# Altium footprint library Chip_Resistor_M.PcbLib: 13 footprints
Each footprint in its own frame and in the unit in brackets; x right, y up, seen from the top. Pads: shape width x height; smd on the part's side, far side on the other; paste and mask are expansions set on the pad; w line width, h text height; cw(c..) or ccw(c..) is an arc to the next point about the centre after c.
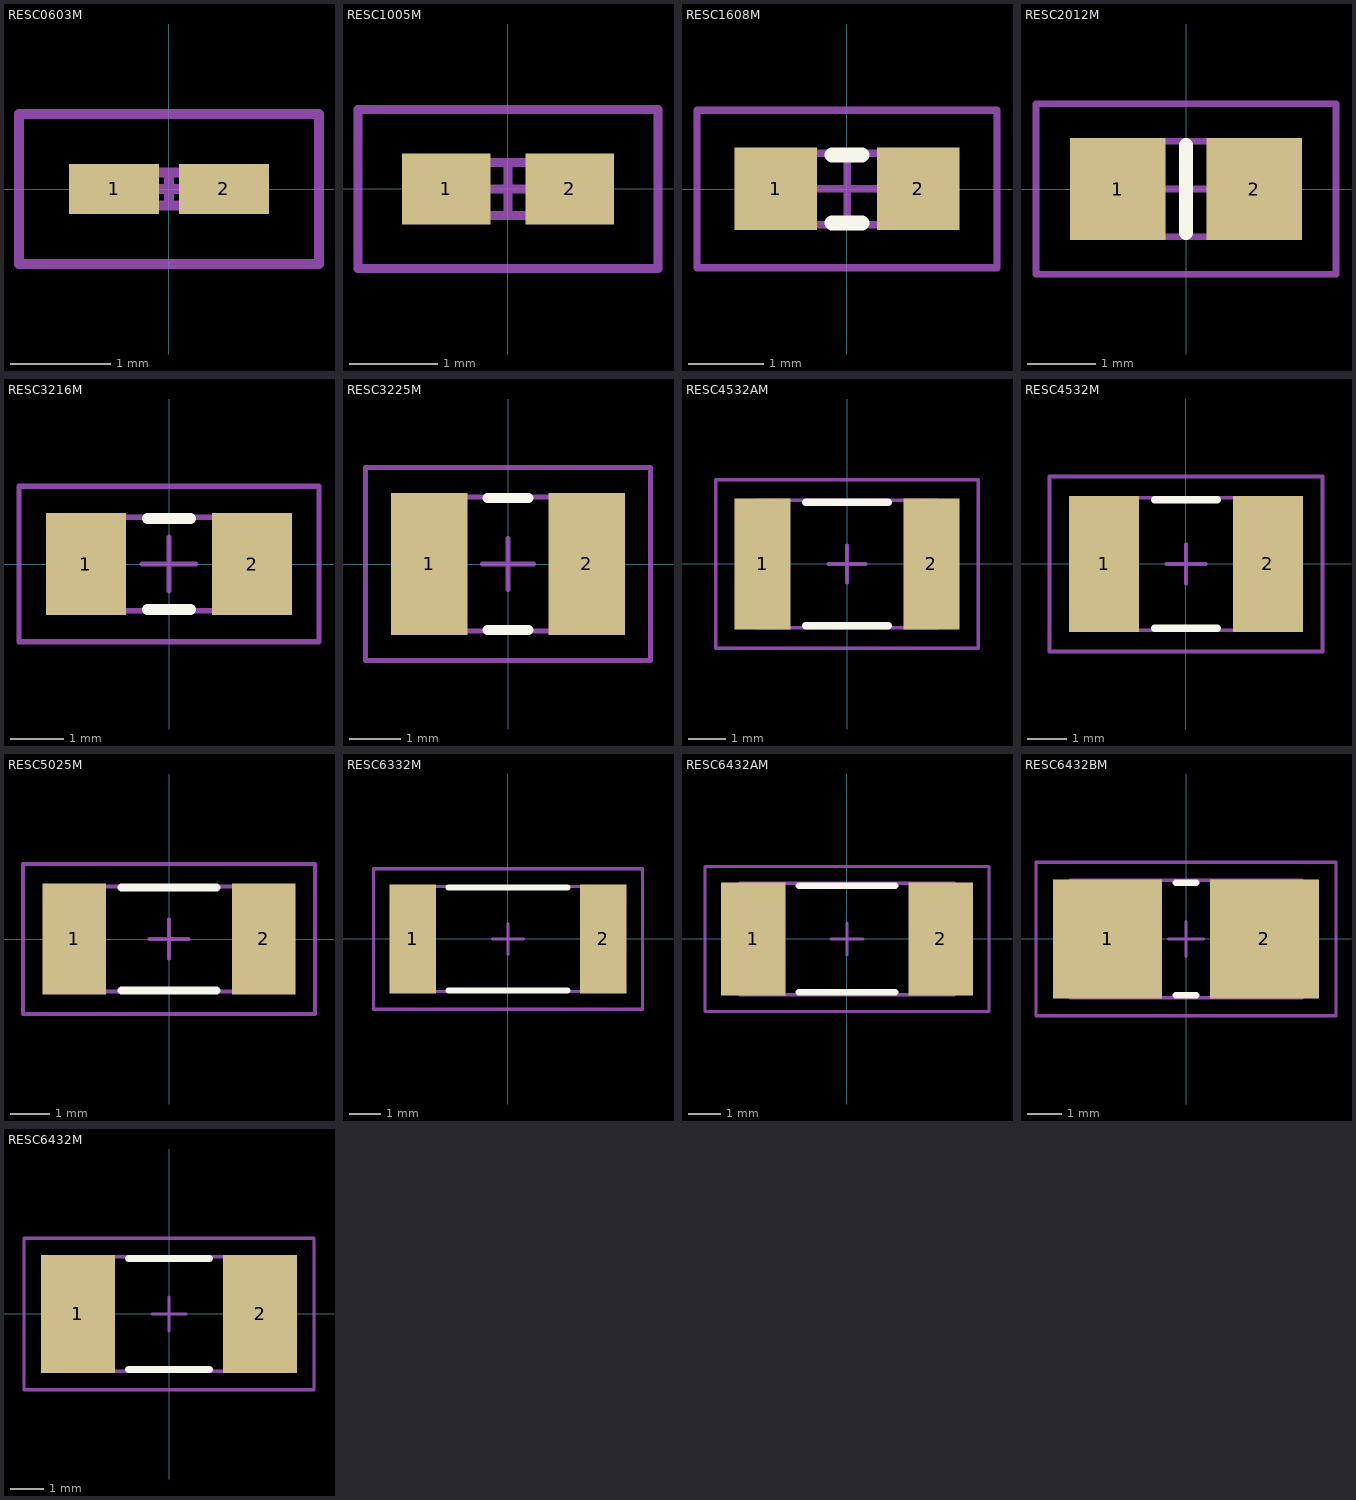
[diagram p0: the footprints below, top view; thin cyan lines are the x and y axes]

## RESC0603M [mm] "Chip Resistor, Body 0.6x0.3mm, IPC Low Density"
height 0.3
pads (2):
  rect 0.9x0.5 smd: 1(-0.55,0) 2(0.55,0)
Mechanical 13:
  lines w0.1: -0.315,-0.165 -0.315,0.165 0.315,0.165 0.315,-0.165 -0.315,-0.165
Mechanical 15:
  lines w0.1: -0.165,0 0.165,0 ; 0,-0.165 0,0.165 ; -1.5,-0.75 -1.5,0.75 1.5,0.75 1.5,-0.75 -1.5,-0.75
3D body: height 0.3, standoff 0, extent -0.315,-0.165 0.315,0.165

## RESC1005M [mm] "Chip Resistor, Body 1.1x0.5mm, IPC Low Density"
height 0.4
pads (2):
  rect 1x0.8 smd: 1(-0.7,0) 2(0.7,0)
Mechanical 13:
  lines w0.1: -0.55,-0.3 0.55,-0.3 0.55,0.3 -0.55,0.3 -0.55,-0.3
Mechanical 15:
  lines w0.1: -0.3,0 0.3,0 ; 0,-0.3 0,0.3 ; -1.7,-0.9 1.7,-0.9 1.7,0.9 -1.7,0.9 -1.7,-0.9
3D body: height 0.4, standoff 0, extent -0.55,-0.3 0.55,0.3

## RESC1608M [mm] "Chip Resistor, Body 1.6x0.8mm, IPC Low Density"
height 0.6
pads (2):
  rect 1.1x1.1 smd: 1(-0.95,0) 2(0.95,0)
Top Overlay:
  lines w0.2: -0.2,-0.45 0.2,-0.45 ; -0.2,0.45 0.2,0.45
Mechanical 13:
  lines w0.1: -0.85,-0.475 0.85,-0.475 0.85,0.475 -0.85,0.475 -0.85,-0.475
Mechanical 15:
  lines w0.1: -0.475,0 0.475,0 ; 0,-0.475 0,0.475 ; -2,-1.05 2,-1.05 2,1.05 -2,1.05 -2,-1.05
3D body: height 0.6, standoff 0, extent -0.85,-0.475 0.85,0.475

## RESC2012M [mm] "Chip Resistor, Body 2.0x1.3mm, IPC Low Density"
height 0.65
pads (2):
  rect 1.4x1.5 smd: 1(-1,0) 2(1,0)
Top Overlay:
  lines w0.2: 0,-0.65 0,0.65
Mechanical 13:
  lines w0.1: -1.075,-0.7 -1.075,0.7 1.075,0.7 1.075,-0.7 -1.075,-0.7
Mechanical 15:
  lines w0.1: -0.5,0 0.5,0 ; 0,-0.5 0,0.5 ; -2.2,-1.25 -2.2,1.25 2.2,1.25 2.2,-1.25 -2.2,-1.25
3D body: height 0.65, standoff 0, extent -1.075,-0.7 1.075,0.7

## RESC3216M [mm] "Chip Resistor, Body 3.2x1.6mm, IPC Low Density"
height 0.71
pads (2):
  rect 1.5x1.9 smd: 1(-1.55,0) 2(1.55,0)
Top Overlay:
  lines w0.2: -0.4,-0.85 0.4,-0.85 ; -0.4,0.85 0.4,0.85
Mechanical 13:
  lines w0.1: -1.675,-0.875 1.675,-0.875 1.675,0.875 -1.675,0.875 -1.675,-0.875
Mechanical 15:
  lines w0.1: -0.5,0 0.5,0 ; 0,-0.5 0,0.5 ; -2.8,-1.45 2.8,-1.45 2.8,1.45 -2.8,1.45 -2.8,-1.45
3D body: height 0.71, standoff 0, extent -1.675,-0.875 1.675,0.875

## RESC3225M [mm] "Chip Resistor, Body 3.2x2.5mm, IPC Low Density"
height 0.71
pads (2):
  rect 1.5x2.8 smd: 1(-1.55,0) 2(1.55,0)
Top Overlay:
  lines w0.2: -0.4,-1.3 0.4,-1.3 ; -0.4,1.3 0.4,1.3
Mechanical 13:
  lines w0.1: -1.675,-1.32 1.675,-1.32 1.675,1.32 -1.675,1.32 -1.675,-1.32
Mechanical 15:
  lines w0.1: -0.5,0 0.5,0 ; 0,-0.5 0,0.5 ; -2.8,-1.9 2.8,-1.9 2.8,1.9 -2.8,1.9 -2.8,-1.9
3D body: height 0.71, standoff 0, extent -1.675,-1.32 1.675,1.32

## RESC4532AM [mm] "Chip Resistor, Body 4.5x3.2mm, IPC Low Density"
height 0.7
pads (2):
  rect 1.5x3.5 smd: 1(-2.25,0) 2(2.25,0)
Top Overlay:
  lines w0.2: -1.1,-1.65 1.1,-1.65 ; -1.1,1.65 1.1,1.65
Mechanical 13:
  lines w0.1: -2.4,-1.7 2.4,-1.7 2.4,1.7 -2.4,1.7 -2.4,-1.7
Mechanical 15:
  lines w0.1: -0.5,0 0.5,0 ; 0,-0.5 0,0.5 ; -3.5,-2.25 3.5,-2.25 3.5,2.25 -3.5,2.25 -3.5,-2.25
3D body: height 0.7, standoff 0, extent -2.4,-1.7 2.4,1.7

## RESC4532M [mm] "Chip Resistor, Body 4.5x3.2mm, IPC Low Density"
height 0.71
pads (2):
  rect 1.8x3.5 smd: 1(-2.1,0) 2(2.1,0)
Top Overlay:
  lines w0.2: -0.8,-1.65 0.8,-1.65 ; -0.8,1.65 0.8,1.65
Mechanical 13:
  lines w0.1: -2.4,-1.7 -2.4,1.7 2.4,1.7 2.4,-1.7 -2.4,-1.7
Mechanical 15:
  lines w0.1: -0.5,0 0.5,0 ; 0,-0.5 0,0.5 ; -3.5,-2.25 -3.5,2.25 3.5,2.25 3.5,-2.25 -3.5,-2.25
3D body: height 0.71, standoff 0, extent -2.4,-1.7 2.4,1.7

## RESC5025M [mm] "Chip Resistor, Body 5.0x2.5mm, IPC Low Density"
height 0.71
pads (2):
  rect 1.6x2.8 smd: 1(-2.4,0) 2(2.4,0)
Top Overlay:
  lines w0.2: -1.2,-1.3 1.2,-1.3 ; -1.2,1.3 1.2,1.3
Mechanical 13:
  lines w0.1: -2.575,-1.325 2.575,-1.325 2.575,1.325 -2.575,1.325 -2.575,-1.325
Mechanical 15:
  lines w0.1: -0.5,0 0.5,0 ; 0,-0.5 0,0.5 ; -3.7,-1.9 3.7,-1.9 3.7,1.9 -3.7,1.9 -3.7,-1.9
3D body: height 0.71, standoff 0, extent -2.575,-1.325 2.575,1.325

## RESC6332M [mm] "Chip Resistor, Body 6.3x3.2mm, IPC Low Density"
height 0.71
pads (2):
  rect 1.5x3.5 smd: 1(-3.05,0) 2(3.05,0)
Top Overlay:
  lines w0.2: -1.9,-1.65 1.9,-1.65 ; -1.9,1.65 1.9,1.65
Mechanical 13:
  lines w0.1: -3.225,-1.675 -3.225,1.675 3.225,1.675 3.225,-1.675 -3.225,-1.675
Mechanical 15:
  lines w0.1: -0.5,0 0.5,0 ; 0,-0.5 0,0.5 ; -4.3,-2.25 -4.3,2.25 4.3,2.25 4.3,-2.25 -4.3,-2.25
3D body: height 0.71, standoff 0, extent -3.225,-1.675 3.225,1.675

## RESC6432AM [mm] "Chip Resistor, Body 6.4x3.2mm, IPC Low Density"
height 1.1
pads (2):
  rect 2x3.5 smd: 1(-2.9,0) 2(2.9,0)
Top Overlay:
  lines w0.2: -1.5,-1.65 1.5,-1.65 ; -1.5,1.65 1.5,1.65
Mechanical 13:
  lines w0.1: -3.325,-1.725 -3.325,1.725 3.325,1.725 3.325,-1.725 -3.325,-1.725
Mechanical 15:
  lines w0.1: -0.5,0 0.5,0 ; 0,-0.5 0,0.5 ; -4.4,-2.25 -4.4,2.25 4.4,2.25 4.4,-2.25 -4.4,-2.25
3D body: height 1.1, standoff 0, extent -3.325,-1.725 3.325,1.725

## RESC6432BM [mm] "Chip Resistor, Body 6.4x3.2mm, IPC Low Density"
height 1.1
pads (2):
  rect 3.2x3.5 smd: 1(-2.3,0) 2(2.3,0)
Top Overlay:
  lines w0.2: -0.3,-1.65 0.3,-1.65 ; -0.3,1.65 0.3,1.65
Mechanical 13:
  lines w0.1: -3.4,-1.725 3.4,-1.725 3.4,1.725 -3.4,1.725 -3.4,-1.725
Mechanical 15:
  lines w0.1: -0.5,0 0.5,0 ; 0,-0.5 0,0.5 ; -4.4,-2.25 4.4,-2.25 4.4,2.25 -4.4,2.25 -4.4,-2.25
3D body: height 1.1, standoff 0, extent -3.4,-1.725 3.4,1.725

## RESC6432M [mm] "Chip Resistor, Body 6.4x3.2mm, IPC Low Density"
height 1.2
pads (2):
  rect 2.2x3.5 smd: 1(-2.7,0) 2(2.7,0)
Top Overlay:
  lines w0.2: -1.2,-1.65 1.2,-1.65 ; -1.2,1.65 1.2,1.65
Mechanical 13:
  lines w0.1: -3.3,-1.7 3.3,-1.7 3.3,1.7 -3.3,1.7 -3.3,-1.7
Mechanical 15:
  lines w0.1: -0.5,0 0.5,0 ; 0,-0.5 0,0.5 ; -4.3,-2.25 4.3,-2.25 4.3,2.25 -4.3,2.25 -4.3,-2.25
3D body: height 1.2, standoff 0, extent -3.3,-1.7 3.3,1.7